# EAGLE library part RPI3-2 (library e14_Rpi3_RevA)
Device for Raspberry Pi 3 board created by Dave Young for www.element14.com More information and support community is available at https://www.element14.com/community/community/raspberry-pi
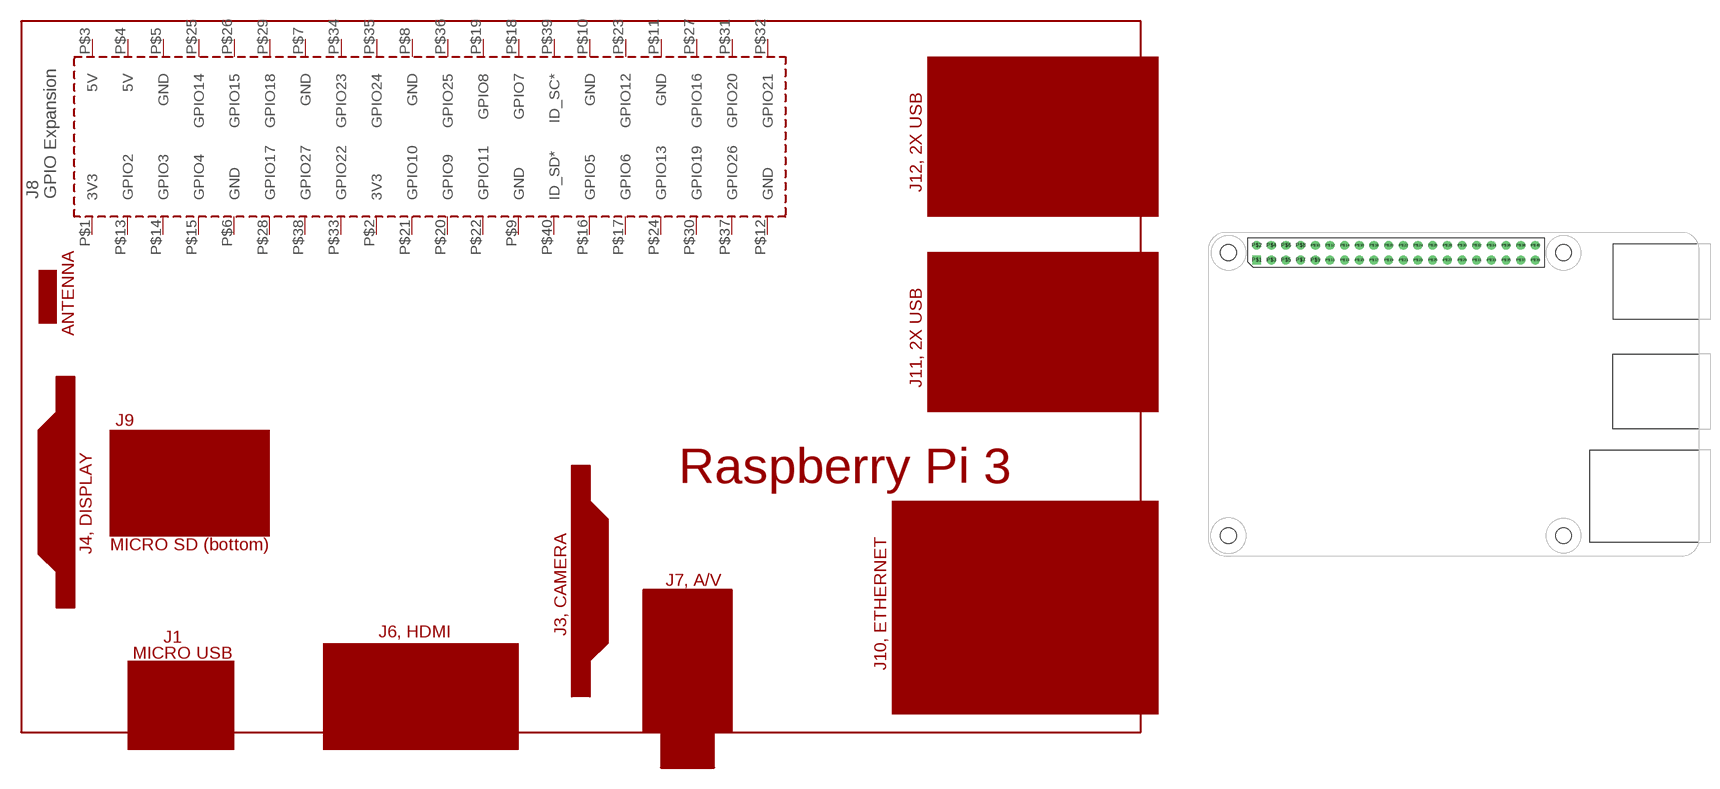
[diagram p1: symbol with the pads of RPI3-1; footprint RPI3-1]

Designator prefix PCB

## RPI3-2  [RPI3-1]
P$1  3V3
P$2  3V3
P$3  5V
P$4  5V
P$5  GND
P$6  GND
P$7  GND
P$8  GND
P$9  GND
P$10  GND
P$11  GND
P$12  GND
P$13  GPIO2
P$14  GPIO3
P$15  GPIO4
P$16  GPIO5
P$17  GPIO6
P$18  GPIO7
P$19  GPIO8
P$20  GPIO9
P$21  GPIO10
P$22  GPIO11
P$23  GPIO12
P$24  GPIO13
P$25  GPIO14
P$26  GPIO15
P$27  GPIO16
P$28  GPIO17
P$29  GPIO18
P$30  GPIO19
P$31  GPIO20
P$32  GPIO21
P$33  GPIO22
P$34  GPIO23
P$35  GPIO24
P$36  GPIO25
P$37  GPIO26
P$38  GPIO27
P$39  ID_SC*
P$40  ID_SD*

## Footprint RPI3-1 (pad centres in mm)
Package for the Raspberry Pi 3 board created by Dave Young for www.elemenet14.com based on documented dimensions and board measurements. For more documentation, please visit http://www.raspberrypi.org/documentation/hardware/raspberrypi/
drill 1.016 square: P$1 8.37,51.23
drill 1.016: P$2 8.357,53.772; P$3 10.897,51.232; P$4 10.897,53.772; P$5 13.437,51.232; P$6 13.437,53.772; P$7 15.977,51.232; P$8 15.977,53.772; P$9 18.517,51.232; P$10 18.517,53.772; P$11 21.057,51.232; P$12 21.057,53.772; P$13 23.597,51.232; P$14 23.597,53.772; P$15 26.137,51.232; P$16 26.137,53.772; P$17 28.677,51.232; P$18 28.677,53.772; P$19 31.217,51.232; P$20 31.217,53.772; P$21 33.757,51.232; P$22 33.757,53.772; P$23 36.297,51.232; P$24 36.297,53.772; P$25 38.837,51.232; P$26 38.837,53.772; P$27 41.377,51.232; P$28 41.377,53.772; P$29 43.917,51.232; P$30 43.917,53.772; P$31 46.457,51.232; P$32 46.457,53.772; P$33 48.997,51.232; P$34 48.997,53.772; P$35 51.537,51.232; P$36 51.537,53.772; P$37 54.077,51.232; P$38 54.077,53.772; P$39 56.617,51.232; P$40 56.617,53.772
hole 2.75 at 3.5,3.5
hole 2.75 at 61.5,3.5
hole 2.75 at 3.5,52.5
hole 2.75 at 61.5,52.5